# Altium footprint library PcbLib1.PcbLib: 6 footprints
Each footprint in its own frame and in the unit in brackets; x right, y up, seen from the top. Pads: shape width x height; smd on the part's side, far side on the other; paste and mask are expansions set on the pad; w line width, h text height; cw(c..) or ccw(c..) is an arc to the next point about the centre after c.
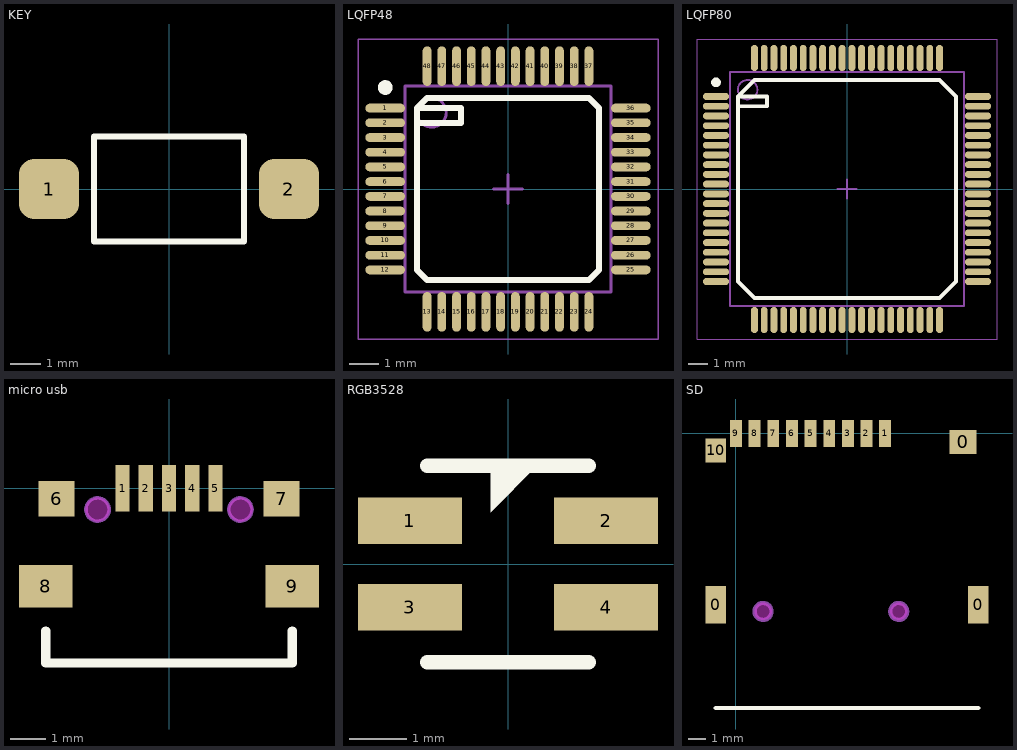
[diagram p0: the footprints below, top view; thin cyan lines are the x and y axes]

## KEY [mm]
pads (2):
  rrect50% 2x2 smd: 1(-4,0) 2(4,0)
Top Overlay:
  lines w0.2: -2.5,-1.75 -2.5,1.75 2.5,1.75 2.5,-1.75 -2.5,-1.75

## LQFP48 [mm] "CQFP, 48-Leads, Body 8.90x8.90mm, Pitch 0.50mm, IPC Medium Density"
height 1.85
pads (48):
  oval 1.35x0.3 smd: 1(-4.175,2.75) 2(-4.175,2.25) 3(-4.175,1.75) 4(-4.175,1.25) 5(-4.175,0.75) 6(-4.175,0.25) 7(-4.175,-0.25) 8(-4.175,-0.75) 9(-4.175,-1.25) 10(-4.175,-1.75) 11(-4.175,-2.25) 12(-4.175,-2.75) 25(4.175,-2.75) 26(4.175,-2.25) 27(4.175,-1.75) 28(4.175,-1.25) 29(4.175,-0.75) 30(4.175,-0.25) 31(4.175,0.25) 32(4.175,0.75) 33(4.175,1.25) 34(4.175,1.75) 35(4.175,2.25) 36(4.175,2.75)
  oval 0.3x1.35 smd: 13(-2.75,-4.175) 14(-2.25,-4.175) 15(-1.75,-4.175) 16(-1.25,-4.175) 17(-0.75,-4.175) 18(-0.25,-4.175) 19(0.25,-4.175) 20(0.75,-4.175) 21(1.25,-4.175) 22(1.75,-4.175) 23(2.25,-4.175) 24(2.75,-4.175) 37(2.75,4.175) 38(2.25,4.175) 39(1.75,4.175) 40(1.25,4.175) 41(0.75,4.175) 42(0.25,4.175) 43(-0.25,4.175) 44(-0.75,4.175) 45(-1.25,4.175) 46(-1.75,4.175) 47(-2.25,4.175) 48(-2.75,4.175)
Top Overlay:
  circle w0.25: c-4.175,3.45 r0.125
  lines w0.2: -3.1,2.25 -1.6,2.25 -1.6,2.75 -3.1,2.75 ; -3.1,2.75 -2.75,3.1 2.75,3.1 3.1,2.75 3.1,-2.75 2.75,-3.1 -2.75,-3.1 -3.1,-2.75 -3.1,2.75
Mechanical 13:
  circle w0.1: c-2.6,2.6 r0.5
  lines w0.1: -3.5,-3.5 3.5,-3.5 3.5,3.5 -3.5,3.5 -3.5,-3.5
Mechanical 15:
  lines w0.05: -5.1,-5.1 5.1,-5.1 5.1,5.1 -5.1,5.1 -5.1,-5.1
  lines w0.1: -0.5,0 0.5,0 ; 0,-0.5 0,0.5
3D body: height 1.85, standoff 0.1, extent -3.5,-3.5 3.5,3.5

## LQFP80 [mm] "CQFP, 80-Leads, Body 14.00x14.00mm, Pitch 0.50mm, IPC Medium Density"
height 1.6
pads (80):
  oval 1.35x0.35 smd: 1(-6.725,4.75) 2(-6.725,4.25) 3(-6.725,3.75) 4(-6.725,3.25) 5(-6.725,2.75) 6(-6.725,2.25) 7(-6.725,1.75) 8(-6.725,1.25) 9(-6.725,0.75) 10(-6.725,0.25) 11(-6.725,-0.25) 12(-6.725,-0.75) 13(-6.725,-1.25) 14(-6.725,-1.75) 15(-6.725,-2.25) 16(-6.725,-2.75) 17(-6.725,-3.25) 18(-6.725,-3.75) 19(-6.725,-4.25) 20(-6.725,-4.75) 41(6.725,-4.75) 42(6.725,-4.25) 43(6.725,-3.75) 44(6.725,-3.25) 45(6.725,-2.75) 46(6.725,-2.25) 47(6.725,-1.75) 48(6.725,-1.25) 49(6.725,-0.75) 50(6.725,-0.25) 51(6.725,0.25) 52(6.725,0.75) 53(6.725,1.25) 54(6.725,1.75) 55(6.725,2.25) 56(6.725,2.75) 57(6.725,3.25) 58(6.725,3.75) 59(6.725,4.25) 60(6.725,4.75)
  oval 0.35x1.35 smd: 21(-4.75,-6.725) 22(-4.25,-6.725) 23(-3.75,-6.725) 24(-3.25,-6.725) 25(-2.75,-6.725) 26(-2.25,-6.725) 27(-1.75,-6.725) 28(-1.25,-6.725) 29(-0.75,-6.725) 30(-0.25,-6.725) 31(0.25,-6.725) 32(0.75,-6.725) 33(1.25,-6.725) 34(1.75,-6.725) 35(2.25,-6.725) 36(2.75,-6.725) 37(3.25,-6.725) 38(3.75,-6.725) 39(4.25,-6.725) 40(4.75,-6.725) 61(4.75,6.725) 62(4.25,6.725) 63(3.75,6.725) 64(3.25,6.725) 65(2.75,6.725) 66(2.25,6.725) 67(1.75,6.725) 68(1.25,6.725) 69(0.75,6.725) 70(0.25,6.725) 71(-0.25,6.725) 72(-0.75,6.725) 73(-1.25,6.725) 74(-1.75,6.725) 75(-2.25,6.725) 76(-2.75,6.725) 77(-3.25,6.725) 78(-3.75,6.725) 79(-4.25,6.725) 80(-4.75,6.725)
Top Overlay:
  circle w0.25: c-6.725,5.475 r0.125
  lines w0.2: -5.6,4.25 -4.1,4.25 -4.1,4.75 -5.6,4.75 ; -5.6,4.75 -4.75,5.6 4.75,5.6 5.6,4.75 5.6,-4.75 4.75,-5.6 -4.75,-5.6 -5.6,-4.75 -5.6,4.75
Mechanical 13:
  circle w0.1: c-5.1,5.1 r0.5
  lines w0.1: -6,-6 6,-6 6,6 -6,6 -6,-6
Mechanical 15:
  lines w0.05: -7.7,-7.7 7.7,-7.7 7.7,7.7 -7.7,7.7 -7.7,-7.7
  lines w0.1: -0.5,0 0.5,0 ; 0,-0.5 0,0.5
3D body: height 1.6, standoff 0.05, extent -6,-6 6,6

## micro usb [mm]
pads (9):
  rect 0.4x1.3 smd: 1(-1.3,0) 2(-0.65,0) 3(0,0) 4(0.65,0) 5(1.3,0)
  rect 1x1 smd: 6(-3.15,-0.3) 7(3.15,-0.3)
  rect 1.5x1.2 smd: 8(-3.45,-2.75) 9(3.45,-2.75)
Top Overlay:
  lines w0.254: -3.45,-4 -3.45,-4.9 3.45,-4.9 3.45,-4
Keep-Out Layer:
  board cut-out: -2,-0.925 -2.065,-0.925 -2.184,-0.876 -2.276,-0.784 -2.325,-0.665 -2.325,-0.6 -2.325,-0.535 -2.276,-0.416 -2.184,-0.324 -2.065,-0.275 -2,-0.275 -1.935,-0.275 -1.816,-0.324 -1.724,-0.416 -1.675,-0.535 -1.675,-0.6 -1.675,-0.665 -1.724,-0.784 -1.816,-0.876 -1.935,-0.925
  board cut-out: 1.675,-0.6 1.675,-0.665 1.724,-0.784 1.816,-0.876 1.935,-0.925 2,-0.925 2.065,-0.925 2.184,-0.876 2.276,-0.784 2.325,-0.665 2.325,-0.6 2.325,-0.535 2.276,-0.416 2.184,-0.324 2.065,-0.275 2,-0.275 1.935,-0.275 1.816,-0.324 1.724,-0.416 1.675,-0.535
Mechanical 1:
  circle w0.1: c-2,-0.6 r0.325
  circle w0.1: c2,-0.6 r0.325

## RGB3528 [mm]
pads (4):
  rect 1.8x0.8 smd: 1(-1.7,0.75) 2(1.7,0.75) 3(-1.7,-0.75) 4(1.7,-0.75)
Top Overlay:
  region: -0.3,1.7 -0.3,0.9 0.5,1.7
  lines w0.254: -1.4,-1.7 1.4,-1.7 ; -1.4,1.7 1.4,1.7

## SD [mm]
pads (13):
  rect 1.2x2.2 smd: 0(-1.2,-10.1) 0(14.3,-10.1)
  rect 1.6x1.4 smd: 0(13.4,-0.5)
  rect 0.7x1.6 smd: 1(8.8,0) 2(7.7,0) 3(6.6,0) 4(5.5,0) 5(4.4,0) 6(3.3,0) 7(2.2,0) 8(1.1,0) 9(0,0)
  rect 1.2x1.4 smd: 10(-1.2,-1)
Top Overlay:
  lines w0.254: -1.2,-16.2 0,-16.2 14.3,-16.2
Keep-Out Layer:
  board cut-out: 1.1,-10.5 1.1,-10.599 1.176,-10.783 1.317,-10.924 1.501,-11 1.6,-11 1.699,-11 1.883,-10.924 2.024,-10.783 2.1,-10.599 2.1,-10.5 2.1,-10.401 2.024,-10.217 1.883,-10.076 1.699,-10 1.6,-10 1.501,-10 1.317,-10.076 1.176,-10.217 1.1,-10.401
  board cut-out: 9.1,-10.5 9.1,-10.599 9.176,-10.783 9.317,-10.924 9.501,-11 9.6,-11 9.699,-11 9.883,-10.924 10.024,-10.783 10.1,-10.599 10.1,-10.5 10.1,-10.401 10.024,-10.217 9.883,-10.076 9.699,-10 9.6,-10 9.501,-10 9.317,-10.076 9.176,-10.217 9.1,-10.401
Mechanical 1:
  circle w0.254: c1.6,-10.5 r0.5
  circle w0.254: c9.6,-10.5 r0.5